# Altium footprint library Ahrist_Library.PcbLib: 172 footprints (part 2 of 11)
Each footprint in its own frame and in the unit in brackets; x right, y up, seen from the top. Pads: shape width x height; smd on the part's side, far side on the other; paste and mask are expansions set on the pad; w line width, h text height; cw(c..) or ccw(c..) is an arc to the next point about the centre after c.
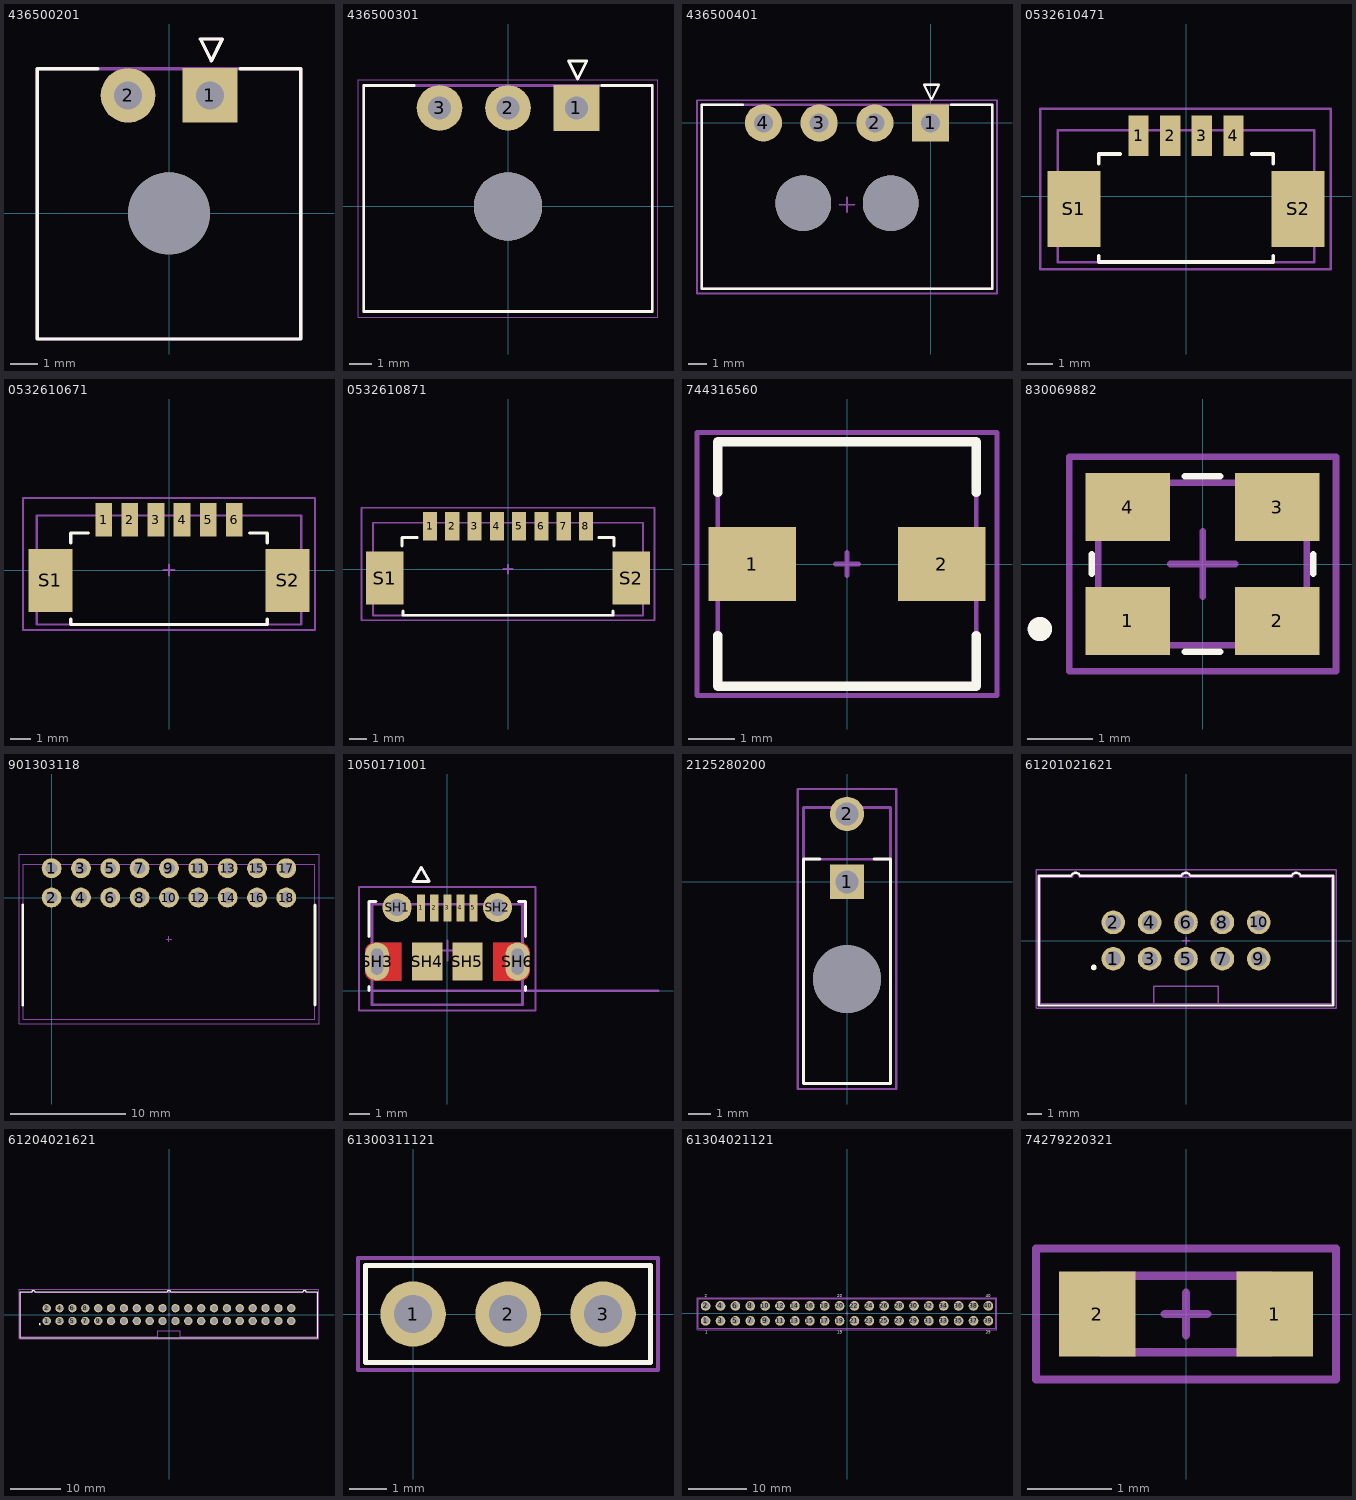
[diagram p1: the footprints below, top view; thin cyan lines are the x and y axes]

## 436500201 [mm] "Conn Power HDR 2 POS 3mm Solder RA Thru-Hole 2 Terminal 1 Port Micro-Fit 3.0™ Tray"
pads (3):
  rect 2x2 hole 1.02 mask+0.076: 1(1.5,4.32)
  round 2 hole 1.02 mask+0.076: 2(-1.5,4.32)
  round 3 hole 3 unplated mask+0.076: ""(0,0)
Top Overlay:
  lines w0.127: -2.61,5.3 -4.825,5.3 -4.825,-4.6 4.825,-4.6 4.825,5.3 2.61,5.3 ; 1.15,6.384 1.95,6.384 1.55,5.584 1.15,6.384
Top Assembly:
  lines w0.127: -4.825,-4.6 4.825,-4.6 4.825,5.3 -4.825,5.3 -4.825,-4.6 ; 1.15,6.384 1.95,6.384 1.55,5.584 1.15,6.384
Mechanical 13:
Top Component Center:
  lines w0.1: 0,-0.5 0,0 ; 0,0 -0.5,0 0.5,0 0,0 ; 0,0 0,0.5 0,0
3D body "436500201--3DModel-STEP-510211.STEP": height 5.57, standoff -3.3, extent -4.825,-4.6 4.825,5.3

## 436500301 [mm]
pads (4):
  rect 2x2 hole 1.02 mask+0.076: 1(3,4.32)
  round 2 hole 1.02 mask+0.076: 2(0,4.32) 3(-3,4.32)
  round 3 hole 3 unplated mask+0.076: ""(0,0)
Top Overlay:
  lines w0.127: -4.11,5.3 -6.325,5.3 -6.325,-4.6 6.325,-4.6 6.325,5.3 4.11,5.3 ; 2.65,6.384 3.45,6.384 3.05,5.584 2.65,6.384
Top Courtyard:
  lines w0.05: -6.575,-4.85 6.575,-4.85 6.575,-3.85 6.575,5.55 5,5.55 -5,5.55 -6.575,5.55 -6.575,-3.85 -6.575,-4.85
Top Assembly:
  lines w0.127: -6.325,-4.6 6.325,-4.6 6.325,5.3 -6.325,5.3 -6.325,-4.6
Top Designator:
  text ".Designator" at -1.5,-0.214 h1.52
Mechanical 13:
Top Component Center:
  lines w0.1: 0,-0.5 0,0 ; 0,0 0,0.5 0,0 ; 0,0 0.5,0 -0.5,0 0,0
3D body "436500301--3DModel-STEP-510211.STEP": height 5.57, standoff -3.3, extent -6.325,-4.6 6.325,5.3

## 436500401 [mm] "MOLEX Connector Header Through Hole, Right Angle 4 position 0.118\" (3.00mm)"
pads (6):
  rect 2x2 hole 1.02 mask+0.076: 1(0,0)
  round 2 hole 1.02 mask+0.076: 2(-3,0) 3(-6,0) 4(-9,0)
  round 3 hole 3 unplated mask+0.076: ""(-6.85,-4.32) ""(-2.15,-4.32)
Top Overlay:
  lines w0.127: -10.11,0.98 -12.325,0.98 -12.325,-8.92 3.325,-8.92 3.325,0.98 1.11,0.98 ; -0.35,2.064 0.45,2.064 0.05,1.264 -0.35,2.064
Top Courtyard:
  lines w0.1: -12.575,-9.175 -12.575,-0.5 -12.575,-0.125 -12.575,1.225 3.575,1.225 3.575,-9.175 -12.575,-9.175
Top Assembly:
  lines w0.127: -12.325,-8.92 3.325,-8.92 3.325,0.98 -12.325,0.98 -12.325,-8.92 ; -0.35,2.064 0.45,2.064 0.05,1.264 -0.35,2.064
Mechanical 13:
Top Component Center:
  lines w0.1: -4.9,-4.4 -4.5,-4.4 ; -4.5,-4.8 -4.5,-4.4 ; -4.1,-4.4 -4.5,-4.4 ; -4.5,-4.4 -4.5,-4 -4.5,-4.4
3D body "0436500401--3DModel-STEP-269445.STEP": height 5.57, standoff -3.3, extent -12.325,-8.9 3.325,1

## 0532610471 [mm] "Molex Picoblade 4pin"
pads (6):
  rect 0.8x1.6 smd mask+0.05: 1(-1.875,2.4) 2(-0.625,2.4) 3(0.625,2.4) 4(1.875,2.4)
  rect 2.1x3 smd mask+0.05: S1(-4.425,-0.5) S2(4.425,-0.5)
Top Overlay:
  lines w0.15: -3.45,-2.35 -3.45,-2.6 3.45,-2.6 3.45,-2.35 ; -3.45,1.3 -3.45,1.675 -2.595,1.675 ; 2.595,1.675 3.45,1.675 3.45,1.3
Top Courtyard:
  lines w0.1: -5.75,-2.875 -5.75,3.45 5.725,3.45 5.725,-2.875 -5.75,-2.875
Top Assembly:
  lines w0.1: -5.075,-2.6 5.075,-2.6 5.075,2.6 -5.075,2.6 -5.075,-2.6
Top Designator:
  text ".Designator" at -0.675,-0.362 h1
3D body "532610471--3DModel-STEP-269445.STEP": height 3.4, standoff -0.05, extent -5.075,-2.6 5.075,2.6

## 0532610671 [mm] "Molex Picoblade 6pin"
pads (8):
  rect 0.8x1.6 smd mask+0.05: 1(-3.125,2.4) 2(-1.875,2.4) 3(-0.625,2.4) 4(0.625,2.4) 5(1.875,2.4) 6(3.125,2.4)
  rect 2.1x3 smd mask+0.05: S1(-5.675,-0.5) S2(5.675,-0.5)
Top Overlay:
  lines w0.15: -4.7,-2.35 -4.7,-2.6 0,-2.6 4.7,-2.6 4.7,-2.35 ; -4.7,1.3 -4.7,1.775 -3.845,1.775 ; 3.845,1.775 4.7,1.775 4.7,1.3
Top Courtyard:
  lines w0.1: -6.975,-2.875 -2.2,-2.875 6.975,-2.875 6.975,3.45 -6.975,3.45 -6.975,-2.875
Top Assembly:
  lines w0.1: -6.325,-2.6 -6.325,2.6 6.325,2.6 6.325,-2.6 -6.325,-2.6
Top Designator:
  text ".Designator" at -1,-0.062 h1
Top Component Outline:
  lines w0.1: -6.325,-2.6 -6.325,2.6 6.325,2.6 6.325,-2.6 -6.325,-2.6
Top Component Center:
  lines w0.1: 0,-0.25 0,0 ; 0,0 -0.25,0 0.25,0 0,0 ; 0,0 0,0.25 0,0
3D body "532610671.stp": height 3.2, standoff -0.2, extent -6.325,-2.5 6.325,2.7

## 0532610871 [mm] "Molex Picoblade 8 pin"
pads (10):
  rect 0.8x1.6 smd mask+0.05: 1(-4.375,2.4) 2(-3.125,2.4) 3(-1.875,2.4) 4(-0.625,2.4) 5(0.625,2.4) 6(1.875,2.4) 7(3.125,2.4) 8(4.375,2.4)
  rect 2.1x3 smd mask+0.05: S1(-6.925,-0.5) S2(6.925,-0.5)
Top Overlay:
  lines w0.15: -5.95,1.3 -5.95,1.775 -5.095,1.775 ; -5.9,-2.35 -5.9,-2.6 5.9,-2.6 5.9,-2.35 ; 5.095,1.775 5.95,1.775 5.95,1.3
Top Courtyard:
  lines w0.1: -8.225,-2.875 -8.225,3.45 8.225,3.45 8.225,-2.875 -8.225,-2.875
Top Designator:
  text ".Designator" at -0.75,-0.312 h1
Top Component Outline:
  lines w0.1: -7.575,-2.6 7.575,-2.6 7.575,2.6 -7.575,2.6 -7.575,-2.6
Mechanical 13:
  lines w0.1: -7.575,-2.6 7.575,-2.6 7.575,2.6 -7.575,2.6 -7.575,-2.6
Top Component Center:
  lines w0.1: 0,-0.25 0,0 ; 0,0 0,0.25 0,0 ; 0,0 0.25,0 0,0 ; 0,0 -0.25,0 0,0
3D body "532610871--3DModel-STEP-418109.STEP": height 3.4, standoff 0, extent -7.575,-2.6 7.575,2.6

## 744316560 [mm] "5040 Wurth Inductor"
pads (2):
  rect 1.9x1.6 smd mask+0.05: 1(-2.05,0) 2(2.05,0)
Top Overlay:
  lines w0.2: -2.8,1.55 -2.8,2.65 2.8,2.65 2.8,1.55 ; -2.8,-2.65 -2.8,-1.55 -2.8,-2.65 ; -2.8,-2.65 2.8,-2.65 ; -2.8,-2.65 2.8,-2.65 ; 2.8,-2.65 2.8,-1.55 2.8,-2.65
Top Courtyard:
  lines w0.1: -3.25,-2.85 -3.25,-0.175 -3.25,2.85 3.25,2.85 3.25,-2.85 -3.25,-2.85
Top Assembly:
  lines w0.1: -2.8,-2.65 -2.8,1.05 -2.8,2.65 2.8,2.65 2.8,-2.65 -2.8,-2.65
Top Designator:
  text ".Designator" at -0.475,-0.162 h1
Top Component Outline:
  lines w0.1: -2.8,-2.65 -2.8,1.05 -2.8,2.65 2.8,2.65 2.8,-2.65 -2.8,-2.65
Top Component Center:
  lines w0.1: 0,-0.25 0,0 ; 0,0 -0.25,0 0,0 ; 0,0 0.25,0 0,0 ; 0,0 0,0.25 0,0
3D body "WE-HCI_5040_744316+%28rev1%29.stp": height 3.95, standoff 0, extent -2.8,-2.65 2.8,2.65

## 830069882 [mm] "Crystals WE-XTAL 12.0MHz 100ppm 3.2 x 2.5mm"
pads (4):
  rect 1.3x1.05 smd: 1(-1.15,-0.875) 2(1.15,-0.875) 3(1.15,0.875) 4(-1.15,0.875)
Top Overlay:
  circle w0.254: c-2.5,-1 r0.06
  lines w0.1: -1.7,-0.15 -1.7,0 -1.7,0.15 ; -0.275,-1.35 0.275,-1.35 ; -0.275,1.35 0.275,1.35 ; 1.7,-0.15 1.7,0 1.7,0.15
Top Courtyard:
  lines w0.1: -2.05,-1.65 -2.05,-0.725 -2.05,1.65 2.05,1.65 2.05,-1.65 -2.05,-1.65
Top Assembly:
  lines w0.1: -1.6,-1.25 -1.6,0.05 -1.6,1.25 1.6,1.25 1.6,-1.25 -1.6,-1.25
  text ".Designator" at -0.825,-0.364 h1.52
Top Component Center:
  lines w0.1: 0,-0.5 0,0 ; 0,0 -0.5,0 0,0 ; 0,0 0.5,0 0,0 ; 0,0 0,0.5 0,0
3D body "Download_STP_830069882 (rev1).stp": height 0.65, standoff 0, extent -1.7,-1.35 1.7,1.35

## 901303118 [mm] "CONN HEADER R/A 18POS 2.54MM"
pads (18):
  round 1.72 hole 1.02: 1(0,2.54) 2(0,0) 3(2.54,2.54) 4(2.54,0) 5(5.08,2.54) 6(5.08,0) 7(7.62,2.54) 8(7.62,0) 9(10.16,2.54) 10(10.16,0) 11(12.7,2.54) 12(12.7,0) 13(15.24,2.54) 14(15.24,0) 15(17.78,2.54) 16(17.78,0) 17(20.32,2.54) 18(20.32,0)
Top Overlay:
  lines w0.25: -2.5,-9.3 -2.5,-0.65 ; 22.82,-9.3 22.82,-0.65
Top Courtyard:
  lines w0.1: -2.825,-10.925 -0.725,-10.925 23.15,-10.925 23.15,3.75 -2.825,3.75 -2.825,-5.425 -2.825,-10.925
Top Assembly:
  lines w0.1: 22.775,2.873 22.775,-10.55 -2.45,-10.55 -2.45,2.875 -2.1,2.875 22.775,2.875
  text ".Designator" at 7.735,-3.615 h0.6
Top Designator:
Top Component Outline:
  lines w0.1: 22.775,2.873 22.775,-10.55 -2.45,-10.55 -2.45,2.875 -2.1,2.875 22.775,2.875
Top Component Center:
  lines w0.1: 9.912,-3.592 10.16,-3.592 ; 10.16,-3.84 10.16,-3.592 ; 10.16,-3.592 10.41,-3.592 ; 10.16,-3.344 10.16,-3.592
3D body "0901303118.stp": height 10.27, standoff -2.38, extent -2.44,-10.53 22.76,2.873

## 1050171001 [mm] "CONN RCPT USB2.0 MICRO B SMD R/A"
pads (11):
  rect 0.4x1.35 smd mask+0.064: 1(-1.3,4.125) 2(-0.65,4.125) 3(0,4.125) 4(0.65,4.125) 5(1.3,4.125)
  round 1.45 hole 0.85 mask+0.064: SH1(-2.5,4.15) SH2(2.5,4.15)
  oval 1.2x1.9 hole 0.6 slot 1.3 at 90 deg mask+0: SH3(-3.5,1.45) SH6(3.5,1.45)
  rect 1.5x1.9 smd mask+0.064: SH4(-1,1.45) SH5(1,1.45)
Top Layer:
  region: 3.626,2.399 3.652,2.397 3.678,2.394 3.704,2.389 3.729,2.383 3.755,2.376 3.779,2.367 3.803,2.357 3.827,2.346 3.85,2.333 3.872,2.319 3.894,2.305 3.915,2.289 3.935,2.272 3.954,2.254 3.972,2.235 3.989,2.215 4.005,2.194 4.019,2.172 4.033,2.15 4.046,2.127 4.057,2.103 4.067,2.079 4.076,2.055 4.083,2.029 4.089,2.004 4.094,1.978 4.097,1.952 4.099,1.926 4.1,1.9 4.1,1 4.099,0.974 4.097,0.948 4.094,0.922 4.089,0.896 4.083,0.871 4.076,0.845 4.067,0.821 4.057,0.797 4.046,0.773 4.033,0.75 4.019,0.728 4.005,0.706 3.989,0.685 3.972,0.665 3.954,0.646 3.935,0.628 3.915,0.611 3.894,0.595 3.872,0.581 3.85,0.567 3.827,0.554 3.803,0.543 3.779,0.533 3.755,0.524 3.729,0.517 3.704,0.511 3.678,0.506 3.652,0.503 3.626,0.501 3.6,0.5 2.3,0.5 2.3,2.4 3.6,2.4
  region: -2.3,0.5 -3.6,0.5 -3.626,0.501 -3.652,0.503 -3.678,0.506 -3.704,0.511 -3.729,0.517 -3.755,0.524 -3.779,0.533 -3.803,0.543 -3.827,0.554 -3.85,0.567 -3.872,0.581 -3.894,0.595 -3.915,0.611 -3.935,0.628 -3.954,0.646 -3.972,0.665 -3.989,0.685 -4.005,0.706 -4.019,0.728 -4.033,0.75 -4.046,0.773 -4.057,0.797 -4.067,0.821 -4.076,0.845 -4.083,0.871 -4.089,0.896 -4.094,0.922 -4.097,0.948 -4.099,0.974 -4.1,1 -4.1,1.9 -4.099,1.926 -4.097,1.952 -4.094,1.978 -4.089,2.004 -4.083,2.029 -4.076,2.055 -4.067,2.079 -4.057,2.103 -4.046,2.127 -4.033,2.15 -4.019,2.172 -4.005,2.194 -3.989,2.215 -3.972,2.235 -3.954,2.254 -3.935,2.272 -3.915,2.289 -3.894,2.305 -3.872,2.319 -3.85,2.333 -3.827,2.346 -3.803,2.357 -3.779,2.367 -3.755,2.376 -3.729,2.383 -3.704,2.389 -3.678,2.394 -3.652,2.397 -3.626,2.399 -3.6,2.4 -2.3,2.4
Bottom Layer:
  region: -2.3,0.5 -3.6,0.5 -3.626,0.501 -3.652,0.503 -3.678,0.506 -3.704,0.511 -3.729,0.517 -3.755,0.524 -3.779,0.533 -3.803,0.543 -3.827,0.554 -3.85,0.567 -3.872,0.581 -3.894,0.595 -3.915,0.611 -3.935,0.628 -3.954,0.646 -3.972,0.665 -3.989,0.685 -4.005,0.706 -4.019,0.728 -4.033,0.75 -4.046,0.773 -4.057,0.797 -4.067,0.821 -4.076,0.845 -4.083,0.871 -4.089,0.896 -4.094,0.922 -4.097,0.948 -4.099,0.974 -4.1,1 -4.1,1.9 -4.099,1.926 -4.097,1.952 -4.094,1.978 -4.089,2.004 -4.083,2.029 -4.076,2.055 -4.067,2.079 -4.057,2.103 -4.046,2.127 -4.033,2.15 -4.019,2.172 -4.005,2.194 -3.989,2.215 -3.972,2.235 -3.954,2.254 -3.935,2.272 -3.915,2.289 -3.894,2.305 -3.872,2.319 -3.85,2.333 -3.827,2.346 -3.803,2.357 -3.779,2.367 -3.755,2.376 -3.729,2.383 -3.704,2.389 -3.678,2.394 -3.652,2.397 -3.626,2.399 -3.6,2.4 -2.3,2.4
  region: 3.626,2.399 3.652,2.397 3.678,2.394 3.704,2.389 3.729,2.383 3.755,2.376 3.779,2.367 3.803,2.357 3.827,2.346 3.85,2.333 3.872,2.319 3.894,2.305 3.915,2.289 3.935,2.272 3.954,2.254 3.972,2.235 3.989,2.215 4.005,2.194 4.019,2.172 4.033,2.15 4.046,2.127 4.057,2.103 4.067,2.079 4.076,2.055 4.083,2.029 4.089,2.004 4.094,1.978 4.097,1.952 4.099,1.926 4.1,1.9 4.1,1 4.099,0.974 4.097,0.948 4.094,0.922 4.089,0.896 4.083,0.871 4.076,0.845 4.067,0.821 4.057,0.797 4.046,0.773 4.033,0.75 4.019,0.728 4.005,0.706 3.989,0.685 3.972,0.665 3.954,0.646 3.935,0.628 3.915,0.611 3.894,0.595 3.872,0.581 3.85,0.567 3.827,0.554 3.803,0.543 3.779,0.533 3.755,0.524 3.729,0.517 3.704,0.511 3.678,0.506 3.652,0.503 3.626,0.501 3.6,0.5 2.3,0.5 2.3,2.4 3.6,2.4
Top Overlay:
  lines w0.15: -3.9,0 -3.9,0.2 ; -3.9,2.7 -3.9,4.45 -3.55,4.45 ; 3.55,4.45 3.9,4.45 3.9,2.7 ; 3.9,0 3.9,0.2 ; -1.7,5.45 -1.3,6.15 -0.9,5.45 -1.7,5.45
Top Solder:
  region: 3.659,2.46 3.688,2.457 3.717,2.451 3.746,2.444 3.774,2.436 3.802,2.426 3.829,2.415 3.856,2.402 3.882,2.388 3.907,2.373 3.931,2.356 3.955,2.338 3.977,2.319 3.998,2.298 4.019,2.277 4.038,2.255 4.056,2.231 4.073,2.207 4.088,2.182 4.102,2.156 4.115,2.129 4.126,2.102 4.136,2.074 4.144,2.046 4.151,2.017 4.157,1.988 4.16,1.959 4.163,1.929 4.163,1.9 4.163,1 4.163,0.971 4.16,0.941 4.157,0.912 4.151,0.883 4.144,0.854 4.136,0.826 4.126,0.798 4.115,0.771 4.102,0.744 4.088,0.718 4.073,0.693 4.056,0.669 4.038,0.645 4.019,0.623 3.998,0.602 3.977,0.581 3.955,0.562 3.931,0.544 3.907,0.527 3.882,0.512 3.856,0.498 3.829,0.485 3.802,0.474 3.774,0.464 3.746,0.456 3.717,0.449 3.688,0.443 3.659,0.44 3.629,0.437 3.6,0.436 2.237,0.436 2.236,0.436 2.236,2.463 3.629,2.463
  region: -2.236,0.436 -2.237,0.436 -3.6,0.436 -3.629,0.437 -3.659,0.44 -3.688,0.443 -3.717,0.449 -3.746,0.456 -3.774,0.464 -3.802,0.474 -3.829,0.485 -3.856,0.498 -3.882,0.512 -3.907,0.527 -3.931,0.544 -3.955,0.562 -3.977,0.581 -3.998,0.602 -4.019,0.623 -4.038,0.645 -4.056,0.669 -4.073,0.693 -4.088,0.718 -4.102,0.744 -4.115,0.771 -4.126,0.798 -4.136,0.826 -4.144,0.854 -4.151,0.883 -4.157,0.912 -4.16,0.941 -4.163,0.971 -4.163,1 -4.163,1.9 -4.163,1.929 -4.16,1.959 -4.157,1.988 -4.151,2.017 -4.144,2.046 -4.136,2.074 -4.126,2.102 -4.115,2.129 -4.102,2.156 -4.088,2.182 -4.073,2.207 -4.056,2.231 -4.038,2.255 -4.019,2.277 -3.998,2.298 -3.977,2.319 -3.955,2.338 -3.931,2.356 -3.907,2.373 -3.882,2.388 -3.856,2.402 -3.829,2.415 -3.802,2.426 -3.774,2.436 -3.746,2.444 -3.717,2.451 -3.688,2.457 -3.659,2.46 -3.629,2.463 -2.236,2.463
Bottom Solder:
  region: -2.236,0.436 -2.237,0.436 -3.6,0.436 -3.629,0.437 -3.659,0.44 -3.688,0.443 -3.717,0.449 -3.746,0.456 -3.774,0.464 -3.802,0.474 -3.829,0.485 -3.856,0.498 -3.882,0.512 -3.907,0.527 -3.931,0.544 -3.955,0.562 -3.977,0.581 -3.998,0.602 -4.019,0.623 -4.038,0.645 -4.056,0.669 -4.073,0.693 -4.088,0.718 -4.102,0.744 -4.115,0.771 -4.126,0.798 -4.136,0.826 -4.144,0.854 -4.151,0.883 -4.157,0.912 -4.16,0.941 -4.163,0.971 -4.163,1 -4.163,1.9 -4.163,1.929 -4.16,1.959 -4.157,1.988 -4.151,2.017 -4.144,2.046 -4.136,2.074 -4.126,2.102 -4.115,2.129 -4.102,2.156 -4.088,2.182 -4.073,2.207 -4.056,2.231 -4.038,2.255 -4.019,2.277 -3.998,2.298 -3.977,2.319 -3.955,2.338 -3.931,2.356 -3.907,2.373 -3.882,2.388 -3.856,2.402 -3.829,2.415 -3.802,2.426 -3.774,2.436 -3.746,2.444 -3.717,2.451 -3.688,2.457 -3.659,2.46 -3.629,2.463 -2.236,2.463
  region: 3.659,2.46 3.688,2.457 3.717,2.451 3.746,2.444 3.774,2.436 3.802,2.426 3.829,2.415 3.856,2.402 3.882,2.388 3.907,2.373 3.931,2.356 3.955,2.338 3.977,2.319 3.998,2.298 4.019,2.277 4.038,2.255 4.056,2.231 4.073,2.207 4.088,2.182 4.102,2.156 4.115,2.129 4.126,2.102 4.136,2.074 4.144,2.046 4.151,2.017 4.157,1.988 4.16,1.959 4.163,1.929 4.163,1.9 4.163,1 4.163,0.971 4.16,0.941 4.157,0.912 4.151,0.883 4.144,0.854 4.136,0.826 4.126,0.798 4.115,0.771 4.102,0.744 4.088,0.718 4.073,0.693 4.056,0.669 4.038,0.645 4.019,0.623 3.998,0.602 3.977,0.581 3.955,0.562 3.931,0.544 3.907,0.527 3.882,0.512 3.856,0.498 3.829,0.485 3.802,0.474 3.774,0.464 3.746,0.456 3.717,0.449 3.688,0.443 3.659,0.44 3.629,0.437 3.6,0.436 2.237,0.436 2.236,0.436 2.236,2.463 3.629,2.463
Top Courtyard:
  lines w0.1: -4.4,-1 -4.4,5.175 4.4,5.175 4.4,-1 -4.4,-1
Top Assembly:
  lines w0.13: 10.5,0 -3.75,0 ; -3.75,0 -3.75,-0.7 3.75,-0.7 3.75,4.3 -3.75,4.3 -3.75,0 ; -1.7,5.45 -1.3,6.15 -0.9,5.45 -1.7,5.45
  text ".Designator" at 0,2.575 h0.7
  text "PCB Edge" at 4.5,0.2 h1
Top Component Center:
  lines w0.1: 0,1.5 0,2 ; 0,2 -0.5,2 0.5,2 0,2 ; 0,2 0,2.5 0,2
3D body "1050171001.stp": height 2.68, standoff -0.63, extent -3.75,-0.6 3.75,4.4

## 2125280200 [mm] "Conn Wire to Board HDR 2 POS 3mm Solder RA Side Entry Thru-Hole Tray"
pads (3):
  rect 1.52x1.52 / inner round 1.52 / far side rect 1.52x1.52 hole 1.02 mask+0.076: 1(0,0)
  round 1.52 hole 1.02 mask+0.076: 2(0,3)
  round 3 hole 3 unplated mask+0.076: ""(0,-4.3)
Top Overlay:
  lines w0.127: -1.2,1.01 -1.925,1.01 -1.925,-8.9 1.925,-8.9 1.925,1.01 1.2,1.01
Top Courtyard:
  lines w0.1: -2.175,2.725 -2.175,2.6 -2.175,-9.15 -1.625,-9.15 2.175,-9.15 2.175,2.6 2.175,2.725 ; -2.175,2.75 -2.175,4.1 -0.4,4.1 ; -0.5,4.1 0.5,4.1 ; 0.4,4.1 2.175,4.1 2.175,2.75
Top Assembly:
  lines w0.127: -1.925,-8.9 1.925,-8.9 1.925,3.28 -1.925,3.28 -1.925,-8.9
Top Designator:
  text ".Designator" at -1.091,-0.126 h0.6
Top Component Outline:
  lines w0.1: -1.925,-8.9 -1.925,0.425 -1.925,1 1.925,1 1.925,-8.9 -1.925,-8.9
Top Component Center:
  lines w0.1: 0,-0.25 0,0 ; 0,0 -0.25,0 0.25,0 0,0 ; 0,0 0,0.25 0,0
3D body "2125280200--3DModel-STEP-361473.STEP": height 8.86, standoff -3.19, extent -1.85,-8.84 2,3.34

## 61201021621 [mm] "Connector Header Through Hole 10 position 0.100\" (2.54mm)"
pads (10):
  round 1.65 hole 1.1: 1(-5.08,-1.27) 2(-5.08,1.27) 3(-2.54,-1.27) 4(-2.54,1.27) 5(0,-1.27) 6(0,1.27) 7(2.54,-1.27) 8(2.54,1.27) 9(5.08,-1.27) 10(5.08,1.27)
Top Overlay:
  circle w0.2: c-6.44,-1.87 r0.1
  lines w0.15: -8.031,4.523 cw(c-7.71,4.4) -7.389,4.523 ; -8.03,4.525 -10.28,4.525 -10.28,-4.525 10.28,-4.525 10.28,4.525 8.01,4.525 ; -7.39,4.525 -0.33,4.525 ; -0.331,4.523 cw(c-0.01,4.4) 0.311,4.523 ; 0.31,4.525 7.37,4.525 ; 7.369,4.523 cw(c7.69,4.4) 8.011,4.523
Top Courtyard:
  lines w0.1: -10.475,-4.725 -10.475,4.125 -10.475,4.4 -10.475,4.95 -10,4.95 10.475,4.95 10.475,-4.725 -10.475,-4.725
Top Assembly:
  lines w0.1: -7.95,4.425 -10.18,4.425 -10.18,-4.425 10.18,-4.425 10.18,4.425 7.95,4.425 ; -7.95,4.426 cw(c-7.7,4.43) -7.45,4.426 ; -7.45,4.425 7.45,4.425 ; -2.25,-4.395 -2.25,-3.795 ; -2.25,-3.8 -2.25,-3.175 2.25,-3.175 2.25,-3.8 ; -0.25,4.426 cw(c0,4.43) 0.25,4.426 ; 2.25,-4.415 2.25,-3.815 ; 7.45,4.426 cw(c7.7,4.435) 7.95,4.426
Top Designator:
  text ".Designator" at -0.75,-0.138 h0.6
Top Component Outline:
  lines w0.1: -7.95,4.425 -10.18,4.425 -10.18,-4.425 10.18,-4.425 10.18,4.425 7.95,4.425 ; -7.95,4.426 cw(c-7.7,4.43) -7.45,4.426 ; -7.45,4.425 7.45,4.425 ; -0.25,4.426 cw(c0,4.43) 0.25,4.426 ; 7.45,4.426 cw(c7.7,4.435) 7.95,4.426
Top Component Center:
  lines w0.1: 0,-0.25 0,0 ; 0,0 -0.25,0 0.25,0 0,0 ; 0,0 0,0.25 0,0
3D body "61201021621+%28rev1%29.stp": height 8.93, standoff -3.17, extent -10.18,-4.425 10.18,4.748

## 61204021621 [mm] "Connector Header Through Hole 40 position 0.100\" (2.54mm)"
pads (40):
  round 1.65 hole 1.1 mask+0.05: 1(-24.13,-1.27) 2(-24.13,1.27) 3(-21.59,-1.27) 4(-21.59,1.27) 5(-19.05,-1.27) 6(-19.05,1.27) 7(-16.51,-1.27) 8(-16.51,1.27) 9(-13.97,-1.27) 10(-13.97,1.27) 11(-11.43,-1.27) 12(-11.43,1.27) 13(-8.89,-1.27) 14(-8.89,1.27) 15(-6.35,-1.27) 16(-6.35,1.27) 17(-3.81,-1.27) 18(-3.81,1.27) 19(-1.27,-1.27) 20(-1.27,1.27) 21(1.27,-1.27) 22(1.27,1.27) 23(3.81,-1.27) 24(3.81,1.27) 25(6.35,-1.27) 26(6.35,1.27) 27(8.89,-1.27) 28(8.89,1.27) 29(11.43,-1.27) 30(11.43,1.27) 31(13.97,-1.27) 32(13.97,1.27) 33(16.51,-1.27) 34(16.51,1.27) 35(19.05,-1.27) 36(19.05,1.27) 37(21.59,-1.27) 38(21.59,1.27) 39(24.13,-1.27) 40(24.13,1.27)
Top Overlay:
  circle w0.2: c-25.49,-1.87 r0.1
  lines w0.15: -27.081,4.523 cw(c-26.76,4.4) -26.439,4.523 ; -27.08,4.525 -29.33,4.525 -29.33,-4.525 29.33,-4.525 29.33,4.525 27.06,4.525 ; -26.44,4.525 -0.33,4.525 ; -0.331,4.523 cw(c-0.01,4.4) 0.311,4.523 ; 0.31,4.525 26.42,4.525 ; 26.419,4.523 cw(c26.74,4.4) 27.061,4.523
Top Courtyard:
  lines w0.1: 29.6,4 29.6,5.025 -29.6,5.025 -29.6,0.3 -29.6,-0.15 -29.6,-4.8 29.6,-4.8 29.6,4.05
Top Assembly:
  lines w0.1: -27,4.425 -29.23,4.425 -29.23,-4.425 -2.25,-4.425 ; -27,4.426 cw(c-26.75,4.43) -26.5,4.426 ; -26.5,4.425 26.5,4.425 ; -2.25,-4.395 -2.25,-3.795 ; -2.25,-3.775 -2.25,-3.175 2.25,-3.175 2.25,-3.775 ; -0.25,4.426 cw(c0,4.43) 0.25,4.426 ; 2.25,-4.425 29.23,-4.425 29.23,4.425 27,4.425 ; 2.25,-4.415 2.25,-3.815 ; 26.5,4.426 cw(c26.75,4.435) 27,4.426
Top Designator:
  text ".Designator" at -2.25,-0.811 h5
Top Component Center:
  lines w0.1: 0,-0.25 0,0 ; 0,0 0,0.25 0,0 ; 0,0 0.25,0 -0.25,0 0,0
3D body "step_temp.STEP": height 9.13, standoff -2.98, extent -29.23,-4.425 29.23,4.748

## 61300311121 [mm] "CONN HEADER VERT 3POS 2.54MM"
pads (3):
  round 1.75 hole 1.02 mask+0.075: 1(0,0) 2(2.54,0) 3(5.08,0)
Top Overlay:
  lines w0.127: -1.275,-1.3 6.35,-1.3 6.35,1.3 -1.275,1.3 -1.275,-1.3
Top Courtyard:
  lines w0.1: -1.475,-1.5 -1.475,1.5 6.55,1.5 6.55,-1.5 -1.475,-1.5
Top Assembly:
  lines w0.127: -1.275,-1.3 6.35,-1.3 6.35,1.3 -1.275,1.3 -1.275,-1.3
Top Designator:
  text ".Designator" at 1.375,-0.188 h0.6
Top Component Outline:
  lines w0.127: -1.275,-1.3 6.35,-1.3 6.35,1.3 -1.275,1.3 -1.275,-1.3
Top Component Center:
  lines w0.1: 2.54,-0.254 2.54,0 ; 2.54,0 2.54,0.254 2.54,0 ; 2.54,0 2.794,0 2.286,0 2.54,0
3D body "Download_STP_61300311121+%28rev1%29.stp": height 8.57, standoff -2.97, extent -1.27,-1.27 6.35,1.27

## 61304021121 [mm] "Connector Header Through Hole 40 position 0.100\" (2.54mm)"
pads (40):
  round 1.65 hole 1.1 mask+0.05: 1(-24.13,-1.27) 2(-24.13,1.27) 3(-21.59,-1.27) 4(-21.59,1.27) 5(-19.05,-1.27) 6(-19.05,1.27) 7(-16.51,-1.27) 8(-16.51,1.27) 9(-13.97,-1.27) 10(-13.97,1.27) 11(-11.43,-1.27) 12(-11.43,1.27) 13(-8.89,-1.27) 14(-8.89,1.27) 15(-6.35,-1.27) 16(-6.35,1.27) 17(-3.81,-1.27) 18(-3.81,1.27) 19(-1.27,-1.27) 20(-1.27,1.27) 21(1.27,-1.27) 22(1.27,1.27) 23(3.81,-1.27) 24(3.81,1.27) 25(6.35,-1.27) 26(6.35,1.27) 27(8.89,-1.27) 28(8.89,1.27) 29(11.43,-1.27) 30(11.43,1.27) 31(13.97,-1.27) 32(13.97,1.27) 33(16.51,-1.27) 34(16.51,1.27) 35(19.05,-1.27) 36(19.05,1.27) 37(21.59,-1.27) 38(21.59,1.27) 39(24.13,-1.27) 40(24.13,1.27)
Top Overlay:
  text "1" at -24.213,-3.486 h0.5
  text "19" at -1.645,-3.486 h0.5
  text "2" at -24.297,2.77 h0.5
  text "20" at -1.687,2.77 h0.5
  text "40" at 23.713,2.77 h0.5
  text "39" at 23.713,-3.486 h0.5
Top Courtyard:
  lines w0.1: -25.6,-2.775 25.6,-2.775 25.6,2.7 -25.6,2.7 -25.6,1.125 -25.6,-2.775
Top Assembly:
  lines w0.1: -25.4,-2.575 -25.4,2.5 25.4,2.5 25.4,-2.575 -25.4,-2.575
  text "1" at -24.213,-3.486 h0.5
  text "19" at -1.645,-3.486 h0.5
  text "2" at -24.297,2.77 h0.5
  text "20" at -1.687,2.77 h0.5
  text "40" at 23.713,2.77 h0.5
  text "39" at 23.713,-3.486 h0.5
Top Designator:
  text ".Designator" at -2.25,-0.811 h5
Top Component Outline:
  lines w0.1: -25.4,-2.575 -25.4,2.5 25.4,2.5 25.4,-2.575 -25.4,-2.575
Top Component Center:
  lines w0.1: 0,-0.25 0,0 ; 0,0 0,0.25 0,0 ; 0,0 0.25,0 -0.25,0 0,0
3D body "61304021121+%28rev1%29.stp": height 8.57, standoff -2.97, extent -25.4,-2.58 25.4,2.5

## 74279220321 [mm] "Ferrite Bead 0805"
pads (2):
  rect 0.9x1 smd paste+0 mask+0.075: 1(1.05,0) 2(-1.05,0)
Top Courtyard:
  lines w0.1: -1.775,-0.775 -1.775,-0.075 -1.775,0.775 1.775,0.775 1.775,-0.775 -1.775,-0.775
Top Assembly:
  lines w0.1: 0.2,-0.45 1,-0.45 1,0.45 -1,0.45 -1,-0.45 0.3,-0.45
Top Designator:
  text ".Designator" at -0.54,-0.14 h0.6
Top Component Center:
  lines w0.1: 0,-0.25 0,0 ; 0,0 -0.25,0 0.25,0 0,0 ; 0,0 0,0.25 0,0
3D body "WE-MPSB_0805_MPSB+(rev1).stp": height 1.2, standoff 0, extent -1,-0.45 1,0.45